# EAGLE library part TLV493DA1B6HTSA2 (library HBPMouse)
Board Mount Hall Effect / 3D Magnetic Sensor Source: Datasheet <https://componentsearchengine.com/Datasheets/1/TLV493DA1B6HTSA2.pdf>
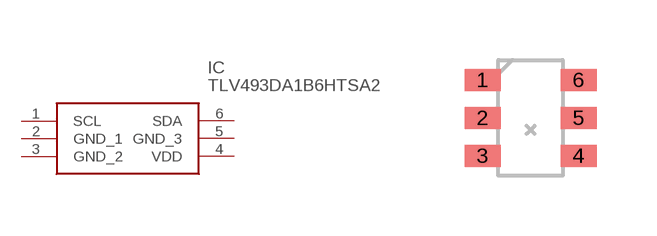
[diagram p0: symbol with the pads of SOT95P250X110-6N; footprint SOT95P250X110-6N]

Designator prefix IC

## TLV493DA1B6HTSA2 (DESCRIPTION: Board Mount Hall Effect / 3D Magnetic Sensor; HEIGHT: 1.1mm; MANUFACTURER_NAME: Infineon; MANUFACTURER_PART_NUMBER: TLV493DA1B6HTSA2; MOUSER_PART_NUMBER: 726-TLV493DA1B6HTSA2; MOUSER_PRICE-STOCK: https://www.mouser.com/Search/Refine.aspx?Keyword=726-TLV493DA1B6HTSA2)  [SOT95P250X110-6N]
1  SCL
2  GND_1  pwr
3  GND_2  pwr
4  VDD  pwr
5  GND_3  pwr
6  SDA

## Footprint SOT95P250X110-6N (pad centres in mm)
PG-TSOP-6-6-5
smd 0.9 x 0.55: 1 -1.2,0.95; 2 -1.2,0; 3 -1.2,-0.95; 4 1.2,-0.95; 5 1.2,0; 6 1.2,0.95